# Altium schematic symbol library LM780X 05_10_18.SchLib: 2 symbols
Pins are listed as number, name and electrical type; pins without a type are passive.

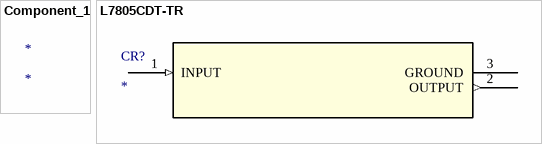
[diagram p0: symbols Component_1 to L7805CDT-TR]

## Component_1
designator *

## L7805CDT-TR
designator CR?
Imported; Manufacturer_Part_Number: L7805CDT-TR; Vendor: STMicroelectronics; Built_By: EMA_UL_Team; Type: DEV; C: Copyright (C) 2015 Accelerated Designs. All rights reserved; RefDes: RefDes; Value: Value
footprint DPAK
pins: 1 INPUT (in), 2 OUTPUT (out), 3 GROUND